# Altium schematic symbol library UCD1V471MNL6GS.SchLib: 1 symbol
Pins are listed as number, name and electrical type; pins without a type are passive.

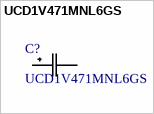
[diagram p0: symbol UCD1V471MNL6GS]

## UCD1V471MNL6GS
designator C?
No Description Available; Manufacturer_Name: Nichicon; Copyright: Copyright (C) 2026 Ultra Librarian. All rights reserved.; Manufacturer_Part_Number: UCD1V471MNL6GS
footprint CAP_UCD_10X13P5_NCH
pins: 1, 2